# Altium schematic symbol library STM32L071KZU3.SchLib: 1 symbol
Pins are listed as number, name and electrical type; pins without a type are passive.

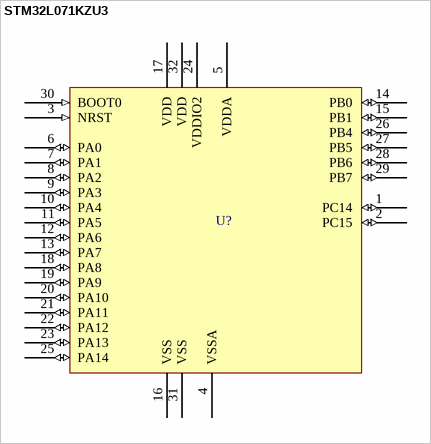
[diagram p0: symbol STM32L071KZU3]

## STM32L071KZU3
designator U?  (value not drawn)
Ultra-low-power Arm Cortex-M0+ MCU with 192-Kbytes of Flash memory, 32 MHz CPU
pins: 1 PC14 (io), 2 PC15 (io), 3 NRST (in), 4 VSSA (power), 5 VDDA (power), 6 PA0 (io), 7 PA1 (io), 8 PA2 (io), 9 PA3 (io), 10 PA4 (io), 11 PA5 (io), 12 PA6 (io), 13 PA7 (io), 14 PB0 (io), 15 PB1 (io), 16 VSS (power), 17 VDD (power), 18 PA8 (io), 19 PA9 (io), 20 PA10 (io), 21 PA11 (io), 22 PA12 (io), 23 PA13 (io), 24 VDDIO2 (power), 25 PA14 (io), 26 PB4 (io), 27 PB5 (io), 28 PB6 (io), 29 PB7 (io), 30 BOOT0 (in), 31 VSS (power), 32 VDD (power)